# EAGLE library part 43045-14 (library con-molex-micro-fit)
HEADER
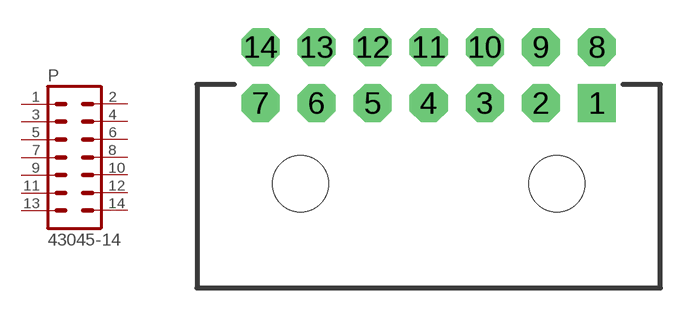
[diagram p4: symbol with the pads of 43045-14; footprint 43045-14]

Designator prefix P

## 43045-14  [43045-14]
1  1  pas
2  2  pas
3  3  pas
4  4  pas
5  5  pas
6  6  pas
7  7  pas
8  8  pas
9  9  pas
10  10  pas
11  11  pas
12  12  pas
13  13  pas
14  14  pas

## Footprint 43045-14 (pad centres in mm)
HEADER
drill 1.016 pad 2.032 square: 1 9,0
drill 1.016 pad 2.032 octagon: 2 6,0; 3 3,0; 4 0,0; 5 -3,0; 6 -6,0; 7 -9,0; 8 9,3; 9 6,3; 10 3,3; 11 0,3; 12 -3,3; 13 -6,3; 14 -9,3
hole 3 at -6.85,-4.32
hole 3 at 6.85,-4.32